# Altium schematic symbol library Z0103MNT1G_600V_1A_SOT223.Schlib: 1 symbol
Pins are listed as number, name and electrical type; pins without a type are passive.

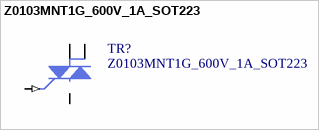
[diagram p0: symbol Z0103MNT1G_600V_1A_SOT223]

## Z0103MNT1G_600V_1A_SOT223
designator TR?
pins: 1 T1, 2 T2, 3 G (in), 4 T2
2 alternate drawings of the same symbol